# Altium schematic symbol library Internship_2.SCHLIB: 36 symbols
Pins are listed as number, name and electrical type; pins without a type are passive.

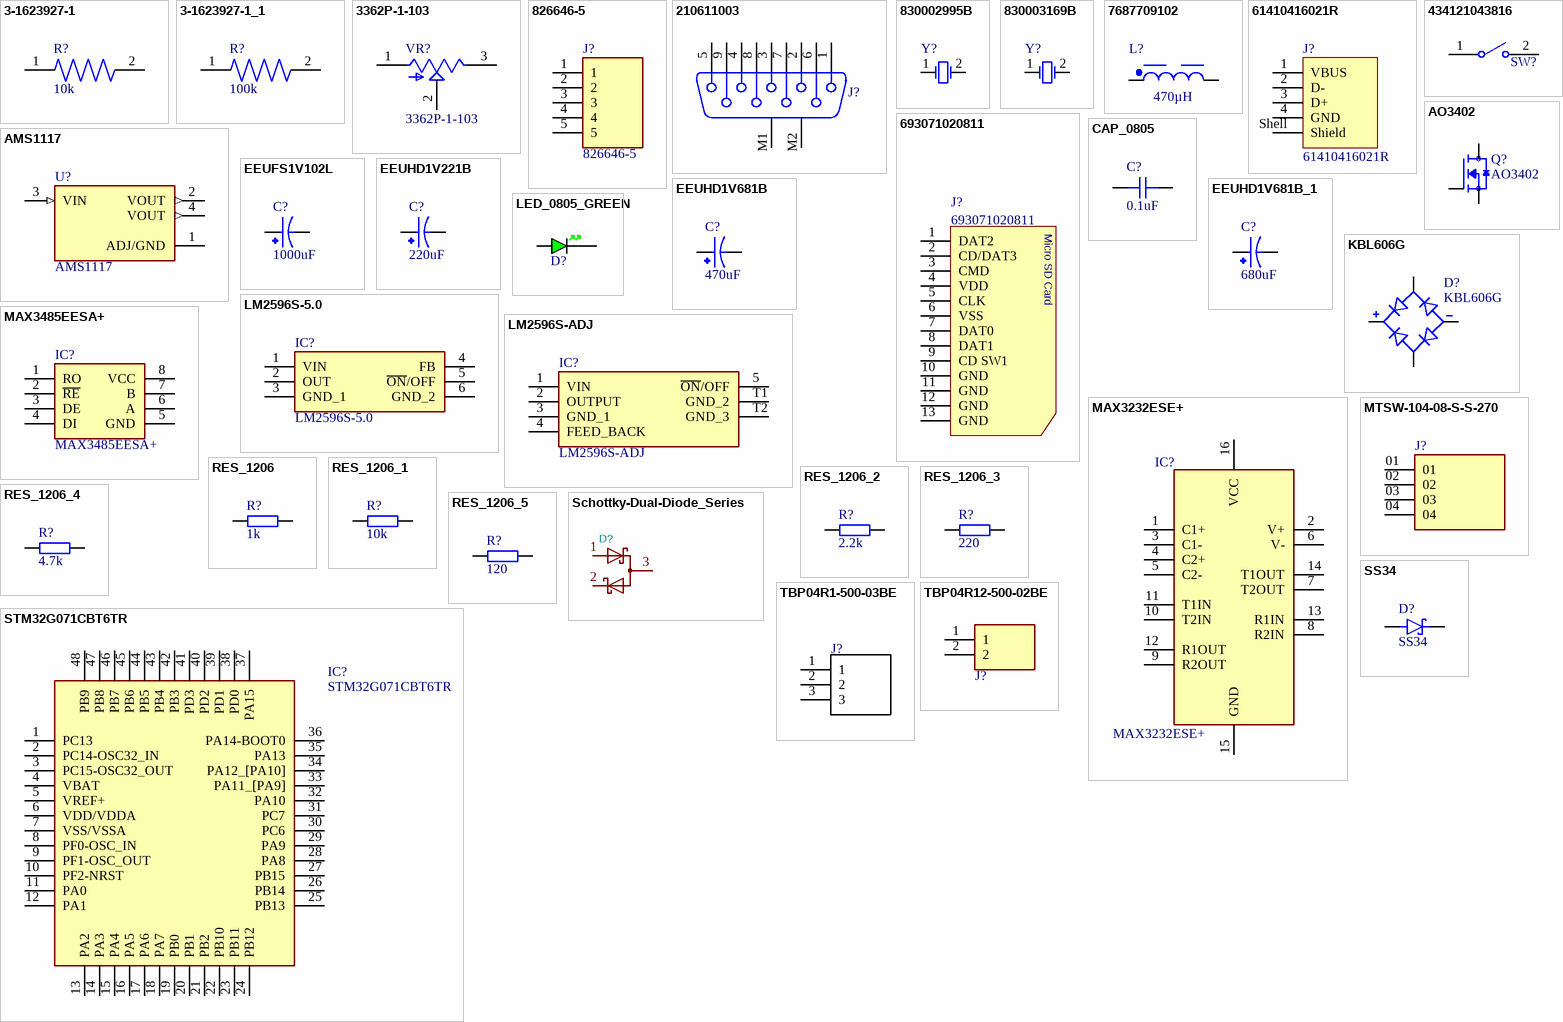
[diagram p0: symbols 3-1623927-1 to TBP04R12-500-02BE]

## 3-1623927-1
designator R?  value 10k  (hidden comment: 3-1623927-1)
1 MOhms Â±5% 1W, 1/4W Through Hole Resistor Axial - Carbon Film; MF: TE Connectivity; Price: None; SnapEDA_Link: https://www.snapeda.com/parts/3-1623927-1/TE+Connectivity/view-part/?ref=snap; Check_prices: https://www.snapeda.com/parts/3-1623927-1/TE+Connectivity/view-part/?ref=eda; MP: 3-1623927-1; Package: None; Availability: In Stock
footprint RESAD700W45L350D185
pins: 1, 2

## 3-1623927-1_1
designator R?, comment value 100k  (hidden comment: 3-1623927-1)
1 MOhms Â±5% 1W, 1/4W Through Hole Resistor Axial - Carbon Film; MF: TE Connectivity; Price: None; SnapEDA_Link: https://www.snapeda.com/parts/3-1623927-1/TE+Connectivity/view-part/?ref=snap; Check_prices: https://www.snapeda.com/parts/3-1623927-1/TE+Connectivity/view-part/?ref=eda; MP: 3-1623927-1; Package: None; Availability: In Stock
footprint RESAD700W45L350D185
pins: 1, 2

## 3362P-1-103
designator VR?
TRIMMER - 1/4in SQ ST CERMET | Bourns 3362P-1-103; SnapEDA_Link: https://www.snapeda.com/parts/3362P-1-103/Bourns/view-part/?ref=snap; Package: 3362P-1 Bourns Inc.; Value: *; MF: Bourns; MP: 3362P-1-103; Check_prices: https://www.snapeda.com/parts/3362P-1-103/Bourns/view-part/?ref=eda
footprint TRIM_3362P-1-103
pins: 1 CCW, 2 WIPER, 3 CW

## 826646-5
designator J?
Board-To-Board Connector, Through Hole, Header, 5, 2.54 mm, Gold Plated Contacts; MF: TE Connectivity; SnapEDA_Link: https://www.snapeda.com/parts/826646-5/TE+Connectivity+AMP+Connectors/view-part/?ref=snap; Package: None; Value: *; MP: 826646-5; EU_RoHS_Compliance: Compliant; Check_prices: https://www.snapeda.com/parts/826646-5/TE+Connectivity+AMP+Connectors/view-part/?ref=eda
footprint TE_826646-5
pins: 1, 2, 3, 4, 5

## 210611003
designator J?, comment Female, Straight, 9p  (value not drawn)
WE-D-SUB Filter Connector, THT, Straight, Female, 9p; Manufacturer Part Number: 210611003; Manufacturer: Wurth Elektronik; Insulation Resistance min.: 1000MOhm; Pin Number: 9; Rated Voltage: 100VDC; Rated Current: 5A; Withstand Voltage: 250Vrms; ComponentLink1Description: Manufacturer; ComponentLink1URL: http://www.we-online.de; ComponentLink2Description: Datasheet; Gender: Female; ComponentLink2URL: https://www.we-online.com/catalog/datasheet/210611003.pdf; Mounting Technology: THT; Packaging: Tray; Orientation: Straight; Operating Temperature: -55 to +125degC; Published Date: April 2020
footprint 210611003 (D-SUB-Filter, Solder Pin Straight, Female, 09p)
pins: 1, 2, 3, 4, 5, 6, 7, 8, 9, M1, M2

## 830002995B
designator Y?, comment 32.768kHz  (value not drawn)
WE-XTAL Watch Crystal, WATCH, 32.768kHz, +/-20ppm; Manufacturer Part Number: 830002995B; Manufacturer: Wurth Elektronik; Load Capacitance: 12.5pF; Category: Crystals; Match Code: WE-XTAL; ComponentLink1Description: Website Link; ComponentLink1URL: https://www.we-online.com/redexpert/article/830002995B?ad; ComponentLink2Description: Datasheet Link; ComponentLink2URL: https://www.we-online.com/redexpert/spec/830002995B?ad; Mount: Through Hole; Min Operating Temperature: -40°C; Max Operating Temperature: 85°C; Packaging: Bulk; Case/Size Code: WATCH; Height: 8.2mm; Diameter: 3mm; Application: Real Time Clock; Frequency: 32.768kHz; Frequency Tolerance: +/-20ppm
footprint WE-XTAL_WATCH_D3H8.2 (Quartz Crystal, size WATCH, body diameter 3mm)
pins: 1 OSC1, 2 OSC2

## 830003169B
designator Y?, comment 10MHz  (value not drawn)
WE-XTAL Quartz Crystal, HC49/4H, 10MHz, +/-30ppm; Manufacturer Part Number: 830003169B; Manufacturer: Wurth Elektronik; Frequency Stability: 50ppm; Load Capacitance: 30pF; Category: Crystals; Match Code: WE-XTAL; ComponentLink1Description: Website Link; ComponentLink1URL: https://www.we-online.com/redexpert/article/830003169B?ad; ComponentLink2Description: Datasheet Link; ComponentLink2URL: https://www.we-online.com/redexpert/spec/830003169B?ad; Mount: Through Hole; Min Operating Temperature: -20°C; Max Operating Temperature: 70°C; Packaging: Bulk; Case/Size Code: HC49/4H; Length: 11.35mm; Width: 4.85mm; Height: 4mm; Application: Processor, Ethernet; Frequency: 10MHz; Frequency Tolerance: +/-30ppm
footprint WE-XTAL_HC49/4H (Quartz Crystal, size HC49/4H, body 11.05x4.7mm)
pins: 1 OSC1, 2 OSC2

## 7687709102
designator L?, comment 470µH
WE-PD HV High Voltage Power Inductor, SMT, size 1210, 1000µH, 0.72A, 1.4Ω; Manufacturer Part Number: 7687709102; Manufacturer: Wurth Elektronik; Case/Size Code: 1210; DC Resistance: 1.2Ω; Operating Voltage (DC): 400V; Saturation Current: 0.9A; Self Resonant Frequency: 1.2MHz; Category: Power Inductors; Match Code: WE-PD HV; ComponentLink1Description: Website Link; ComponentLink1URL: https://www.we-online.com/redexpert/article/7687709102?ad; ComponentLink2Description: Datasheet Link; ComponentLink2URL: https://www.we-online.com/redexpert/spec/7687709102?ad; Mount: Surface Mount; Min Operating Temperature: -40°C; Max Operating Temperature: 125°C; Packaging: Tape and Reel; Length: 12mm; Width: 12mm; Height: 10.5mm; DC Resistance Max: 1.4Ω; Inductance: 1000µH; Rated Current: 0.72A
footprint WE-PD HV_1210 (SMT High Voltage Power Inductor, 2-Leads, body 12.00x12.00mm)
simulation model 1210_7687709102_1000u
pins: 1, 2

## 61410416021R
designator J?
WR-COM USB 2.0 Type A Horizontal THR; Manufacturer: Wurth Elektronik; Match Code: WR-USB; Gender: Receptacle; Interface Type: Type A; Number of Ports: 1; Rated Current: 1.5A; Working Voltage: 30V (AC); Manufacturer Part Number: 61410416021R; Category: Input/Output Connectors; ComponentLink1Description: Website Link; ComponentLink1URL: https://www.we-online.com/redexpert/article/61410416021R?ad; ComponentLink2Description: Datasheet Link; ComponentLink2URL: https://www.we-online.com/redexpert/spec/61410416021R?ad; Mount: Surface Mount; Min Operating Temperature: -55°C; Max Operating Temperature: 85°C; Packaging: Tape and Reel; Application: USB 2.0; Number of Pins: 4; Orientation: Horizontal
footprint 61410416021R (USB Type A Horizontal THR)
pins: 1 VBUS, 2 D-, 3 D+, 4 GND, Shell Shield

## 434121043816
designator SW?  (value not drawn)
WS-TASV SMT Tact Switch, 6mm x 3.5mm x 4.3mm, SPST-NO, 160gf, 12V, 50mA; Manufacturer: Wurth Elektronik; Washable: No; Manufacturer Part Number: 434121043816; Category: Tact Switch; Match Code: WS-TASV; ComponentLink1Description: Website Link; ComponentLink1URL: https://www.we-online.com/redexpert/article/434121043816?ad; ComponentLink2Description: Datasheet Link; ComponentLink2URL: https://www.we-online.com/redexpert/spec/434121043816?ad; Mount: Surface Mount; Min Operating Temperature: -40°C; Max Operating Temperature: 85°C; Packaging: Tape and Reel; Length: 6mm; Width: 3.5mm; Height: 4.3mm; Rated Current: 50mA; Circuit: SPST-NO; Contact Material: Stainless Steel; Contact Plating: Silver; Operation Force: 160gf; Rated Voltage (DC): 12V; Terminal Material: Copper Alloy; Terminal Plating: Silver
footprint 434121043816 (SMD Tact Switch, body 6x3.5mm)
pins: 1, 2

## 693071020811
designator J?
WR-CRD SD Card Connector Push & Push Socket, 8 pins; Manufacturer: Wurth Elektronik; Durability: 10000 Mating cycles; Manufacturer Part Number: 693071020811; Category: Input/Output Connector; Match Code: WR-CRD; ComponentLink1Description: Website Link; ComponentLink1URL: https://www.we-online.com/redexpert/article/693071020811?ad; ComponentLink2Description: Datasheet Link; ComponentLink2URL: https://www.we-online.com/redexpert/spec/693071020811?ad; Mount: Surface Mount; Min Operating Temperature: -40 °C; Max Operating Temperature: 85 °C; Packaging: Tape and Reel; Application: Micro SD Card; Gender: Socket; Number of Pins: 8; Type: Push & Push
footprint 693071020811 (Micro SD Card Connector Push & Push - with Card Detection - 8 Pins)
pins: 1 DAT2, 2 CD/DAT3, 3 CMD, 4 VDD, 5 CLK, 6 VSS, 7 DAT0, 8 DAT1, 9 CD SW1, 10 GND, 11 GND, 12 GND, 13 GND

## AMS1117
designator U?
1A LOW DROPOUT VOLTAGE REGULATOR SOT-223; MF: Advanced Monolithic Systems; SnapEDA_Link: https://www.snapeda.com/parts/AMS1117/Advanced+Monolithic+Systems/view-part/?ref=snap; Package: SOT-223 Seeed Technology; Value: *; MP: AMS1117; Check_prices: https://www.snapeda.com/parts/AMS1117/Advanced+Monolithic+Systems/view-part/?ref=eda
footprint SOT229P700X180-4N
pins: 1 ADJ/GND (power), 2 VOUT (out), 3 VIN (in), 4 VOUT (out)

## AO3402
designator Q?
N-Channel 30 V 4A (Ta) 1.4W (Ta) Surface Mount SOT-23-3; MF: Alpha & Omega Semiconductor; SnapEDA_Link: https://www.snapeda.com/parts/AO3402/Alpha/view-part/?ref=snap; Package: SOT-23 Alpha &amp; Omega Semiconductor; Value: *; MP: AO3402; Check_prices: https://www.snapeda.com/parts/AO3402/Alpha/view-part/?ref=eda
footprint SOT95P280X125-3N
pins: 1 G, 2 S, 3 D

## CAP_0805
designator C?, comment 0.1uF
Capacitor SMD 0805; Manufacturer: *; Manufacturer Part Number: *; Distributor Link: *; LCSC: *; Rating: *; Dielectric: *
footprint CAP_0805
pins: 1, 2

## EEUFS1V102L
designator C?, comment 1000uF
1000ÂµF 35V Aluminum Electrolytic Capacitors Radial, Can 10000 Hrs @ 105Â°C; MP: EEUFS1V102L; MF: Panasonic; Package: RADIAL-2 Panasonic; SnapEDA_Link: https://www.snapeda.com/parts/EEUFS1V102L/Panasonic/view-part/?ref=snap; Value: *; Check_prices: https://www.snapeda.com/parts/EEUFS1V102L/Panasonic/view-part/?ref=eda; Availability: In Stock; Purchase-URL: https://pricing.snapeda.com/search/part/EEUFS1V102L/?ref=eda; Price: None
footprint CAPPRD500W60D1000H2500
pins: N, P

## EEUHD1V221B
designator C?, comment 220uF
Cap Aluminum 220uF 35V 20% (8 X 11.5mm) Radial 5mm 270mA 1000 hr 105C Ammo Pack; MP: EEU-HD1V221B; MF: Panasonic; Package: RADIAL-2 Panasonic; Availability: In Stock; Value: *; SnapEDA_Link: https://www.snapeda.com/parts/EEU-HD1V221B/Panasonic/view-part/?ref=snap; Price: None; Check_prices: https://www.snapeda.com/parts/EEU-HD1V221B/Panasonic/view-part/?ref=eda; Purchase-URL: https://pricing.snapeda.com/search/part/EEU-HD1V221B/?ref=eda
footprint CAPPRD500W60D800H1150
pins: N, P

## EEUHD1V681B
designator C?, comment 470uF
CAP ALUM 680UF 20% 35V RADIAL; MF: Panasonic; MP: EEU-HD1V681B; Package: RADIAL-2 Panasonic; Price: None; Check_prices: https://www.snapeda.com/parts/EEU-HD1V681B/Panasonic/view-part/?ref=eda; Value: *; SnapEDA_Link: https://www.snapeda.com/parts/EEU-HD1V681B/Panasonic/view-part/?ref=snap; Availability: In Stock; Purchase-URL: https://pricing.snapeda.com/search?q=EEU-HD1V681B&ref=eda
footprint CAPPRD500W60D1000H1600
pins: N, P

## EEUHD1V681B_1
designator C?, comment 680uF
CAP ALUM 680UF 20% 35V RADIAL; MF: Panasonic; MP: EEU-HD1V681B; Package: RADIAL-2 Panasonic; Price: None; Check_prices: https://www.snapeda.com/parts/EEU-HD1V681B/Panasonic/view-part/?ref=eda; Value: *; SnapEDA_Link: https://www.snapeda.com/parts/EEU-HD1V681B/Panasonic/view-part/?ref=snap; Availability: In Stock; Purchase-URL: https://pricing.snapeda.com/search?q=EEU-HD1V681B&ref=eda
footprint CAPPRD500W60D1000H1600
pins: N, P

## KBL606G
designator D?
Value: *; MP: KBL606G; Availability: Unavailable; Price: None; Package: None
footprint SIP600W130P510L1900H1630Q4
pins: AC1, AC2, NEG, POS

## LED_0805_GREEN
designator D?, comment GREEN  (value not drawn)
LED 0805 GREEN SMD; Manufacturer: *; Manufacturer Part Number: *; Distributor Link: *; LCSC: *
footprint LED_0805_GREEN
pins: A, K

## LM2596S-5.0
designator IC?
Integrated Circuit; Manufacturer_Name: Texas Instruments; Datasheet Link: https://www.ti.com/lit/gpn/LM2596; Manufacturer_Part_Number: LM2596S-5.0; Mouser Part Number: 926-LM2596S-50; Mouser Price/Stock: https://www.mouser.co.uk/ProductDetail/Texas-Instruments/LM2596S-5.0?qs=X1J7HmVL2ZGcOr96VNr%252B%2Fw%3D%3D; Arrow Part Number: LM2596S-5.0; Arrow Price/Stock: https://www.arrow.com/en/products/lm2596s-5.0/texas-instruments?region=nac
footprint KTT0005B
pins: 1 VIN, 2 OUT, 3 GND_1, 4 FB, 5 ~{ON}/OFF, 6 GND_2

## LM2596S-ADJ
designator IC?
Integrated Circuit; Manufacturer_Name: Texas Instruments; Datasheet Link: https://www.ti.com/lit/ds/symlink/lm2596.pdf?HQS=ti-null-null-sf-df-pf-sep-wwe&ts=1592978195629; Height: 4.57mm; Manufacturer_Part_Number: LM2596S-ADJ; Mouser Part Number: 926-LM2596S-ADJ; Mouser Price/Stock: https://www.mouser.co.uk/ProductDetail/Texas-Instruments/LM2596S-ADJ?qs=X1J7HmVL2ZGmRmhAtwKZ2Q%3D%3D
footprint LM2596SXADJ
pins: 1 VIN, 2 OUTPUT, 3 GND_1, 4 FEED_BACK, 5 ~{ON}/OFF, T1 GND_2, T2 GND_3

## MAX3232ESE+
designator IC?
Integrated Circuit; Manufacturer_Name: Analog Devices; Datasheet Link: https://www.mouser.com/datasheet/2/256/MAX3222-MAX3241-1292123.pdf; Height: 1.75mm; Manufacturer_Part_Number: MAX3232ESE+; Mouser Part Number: 700-MAX3232ESE; Mouser Price/Stock: https://www.mouser.co.uk/ProductDetail/Analog-Devices-Maxim-Integrated/MAX3232ESE%2b?qs=1THa7WoU59GfcUr9ieNstA%3D%3D; Arrow Part Number: MAX3232ESE+; Arrow Price/Stock: https://www.arrow.com/en/products/max3232ese/analog-devices?region=asia
footprint SOIC127P600X175-16N
pins: 1 C1+, 2 V+, 3 C1-, 4 C2+, 5 C2-, 6 V-, 7 T2OUT, 8 R2IN, 9 R2OUT, 10 T2IN, 11 T1IN, 12 R1OUT, 13 R1IN, 14 T1OUT, 15 GND, 16 VCC

## MAX3485EESA+
designator IC?
Integrated Circuit; Manufacturer_Name: Analog Devices; Datasheet Link: https://datasheet.datasheetarchive.com/originals/distributors/Datasheets-18/DSA-341145.pdf; Height: 1.75mm; Manufacturer_Part_Number: MAX3485EESA+; Mouser Part Number: 700-MAX3485EESA; Mouser Price/Stock: https://www.mouser.co.uk/ProductDetail/Analog-Devices-Maxim-Integrated/MAX3485EESA%2b?qs=1THa7WoU59HLsdsozrMCeQ%3D%3D; Arrow Part Number: MAX3485EESA+; Arrow Price/Stock: https://www.arrow.com/en/products/max3485eesa/analog-devices?utm_currency=USD&region=nac
footprint SOIC127P600X175-8N
pins: 1 RO, 2 ~{RE}, 3 DE, 4 DI, 5 GND, 6 A, 7 B, 8 VCC

## MTSW-104-08-S-S-270
designator J?  (value not drawn)
Connector Header Through Hole 4 position 0.100 (2.54mm); MF: Samtec; SnapEDA_Link: https://www.snapeda.com/parts/MTSW-104-08-S-S-270/Samtec/view-part/?ref=snap; Package: None; Value: *; MP: MTSW-104-08-S-S-270; Check_prices: https://www.snapeda.com/parts/MTSW-104-08-S-S-270/Samtec/view-part/?ref=eda
footprint SAMTEC_MTSW-104-08-S-S-270
pins: 01, 02, 03, 04

## RES_1206
designator R?, comment 1k
Resistor SMD 1206; Manufacturer: *; Manufacturer Part Number: *; Distributor Link: *; LCSC: *
footprint RES_1206
pins: 1, 2

## RES_1206_1
designator R?, comment 10k
Resistor SMD 1206; Manufacturer: *; Manufacturer Part Number: *; Distributor Link: *; LCSC: *
footprint RES_1206
pins: 1, 2

## RES_1206_2
designator R?, comment 2.2k
Resistor SMD 1206; Manufacturer: *; Manufacturer Part Number: *; Distributor Link: *; LCSC: *
footprint RES_1206
pins: 1, 2

## RES_1206_3
designator R?, comment 220
Resistor SMD 1206; Manufacturer: *; Manufacturer Part Number: *; Distributor Link: *; LCSC: *
footprint RES_1206
pins: 1, 2

## RES_1206_4
designator R?, comment 4.7k
Resistor SMD 1206; Manufacturer: *; Manufacturer Part Number: *; Distributor Link: *; LCSC: *
footprint RES_1206
pins: 1, 2

## RES_1206_5
designator R?, comment 120
Resistor SMD 1206; Manufacturer: *; Manufacturer Part Number: *; Distributor Link: *; LCSC: *
footprint RES_1206
pins: 1, 2

## Schottky-Dual-Diode_Series
designator D?  (value not drawn)
ki_keywords: Dual Schottky Diode Series; ki_description: Dual Schottky Diode in Series; Reference: D; Datasheet: https://diotec.com/request/datasheet/bat54.pdf; Value: Schottky-Dual-Diode
footprint SOT-23 (SOT23, 3-Leads, IPC Medium Density, TO-236)
pins: 1 A, 2 C, 3

## SS34
designator D?
Diode Schottky 40 V 3A Surface Mount SMC (DO-214AB); MF: onsemi; SnapEDA_Link: https://www.snapeda.com/parts/SS34/Onsemi/view-part/?ref=snap; Package: SMC-2 ON Semiconductor; Value: *; MP: SS34; Check_prices: https://www.snapeda.com/parts/SS34/Onsemi/view-part/?ref=eda
footprint DIOM7959X265N
pins: A, C K

## STM32G071CBT6TR
designator IC?
Integrated Circuit; Manufacturer_Name: STMicroelectronics; Datasheet Link: https://www.st.com/resource/en/datasheet/stm32g071cb.pdf; Height: 1.6mm; Manufacturer_Part_Number: STM32G071CBT6TR; Mouser Part Number: 511-STM32G071CBT6TR; Mouser Price/Stock: https://www.mouser.co.uk/ProductDetail/STMicroelectronics/STM32G071CBT6TR?qs=l7cgNqFNU1gody9j5I9dSQ%3D%3D; Arrow Part Number: STM32G071CBT6TR; Arrow Price/Stock: https://www.arrow.com/en/products/stm32g071cbt6tr/stmicroelectronics?region=nac
footprint QFP50P900X900X160-48N
pins: 1 PC13, 2 PC14-OSC32_IN, 3 PC15-OSC32_OUT, 4 VBAT, 5 VREF+, 6 VDD/VDDA, 7 VSS/VSSA, 8 PF0-OSC_IN, 9 PF1-OSC_OUT, 10 PF2-NRST, 11 PA0, 12 PA1, 13 PA2, 14 PA3, 15 PA4, 16 PA5, 17 PA6, 18 PA7, 19 PB0, 20 PB1, 21 PB2, 22 PB10, 23 PB11, 24 PB12, 25 PB13, 26 PB14, 27 PB15, 28 PA8, 29 PA9, 30 PC6, 31 PC7, 32 PA10, 33 PA11_[PA9], 34 PA12_[PA10], 35 PA13, 36 PA14-BOOT0, 37 PA15, 38 PD0, 39 PD1, 40 PD2, 41 PD3, 42 PB3, 43 PB4, 44 PB5, 45 PB6, 46 PB7, 47 PB8, 48 PB9

## TBP04R1-500-03BE
designator J?  (value not drawn)
SnapEDA_Link: https://www.snapeda.com/parts/TBP04R1-500-03BE/Same+Sky/view-part/?ref=snap; Check_prices: https://www.snapeda.com/parts/TBP04R1-500-03BE/Same+Sky/view-part/?ref=eda; Value: *
footprint *CUI_TBP04R1-500-03BE
pins: 1, 2, 3

## TBP04R12-500-02BE
designator J?  (value not drawn)
2~24 Poles, Pluggable, Receptacle, Horizontal, 5.0 Pitch, Terminal Block Connector; MF: Same Sky; SnapEDA_Link: https://www.snapeda.com/parts/TBP04R12-500-02BE/Same+Sky/view-part/?ref=snap; Package: None; Value: *; MP: TBP04R12-500-02BE; Check_prices: https://www.snapeda.com/parts/TBP04R12-500-02BE/Same+Sky/view-part/?ref=eda
footprint CUI_TBP04R12-500-02BE
pins: 1, 2